# EAGLE library part IC-MIDI-YMZ294 (library mylib)
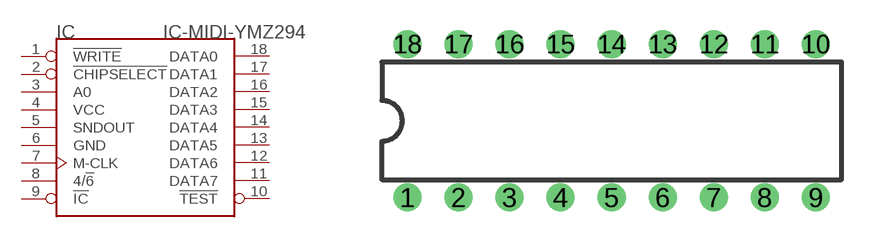
[diagram p0: symbol with the pads of IC-SOCKET-DIL-18; footprint IC-SOCKET-DIL-18]

Designator prefix IC

## IC-MIDI-YMZ294  [IC-SOCKET-DIL-18]
1  !WRITE  in
2  !CHIPSELECT  in
3  A0
4  VCC  pwr
5  SNDOUT
6  GND  pwr
7  M-CLK  in
8  4/!6
9  !IC
10  !TEST
11  DATA7
12  DATA6
13  DATA5
14  DATA4
15  DATA3
16  DATA2
17  DATA1
18  DATA0

## Footprint IC-SOCKET-DIL-18 (pad centres in mm)
Dual In Line Package
drill 0.889: 1 -10.16,-3.81; 2 -7.62,-3.81; 3 -5.08,-3.81; 4 -2.54,-3.81; 5 0,-3.81; 6 2.54,-3.81; 7 5.08,-3.81; 8 7.62,-3.81; 9 10.16,-3.81; 10 10.16,3.81; 11 7.62,3.81; 12 5.08,3.81; 13 2.54,3.81; 14 0,3.81; 15 -2.54,3.81; 16 -5.08,3.81; 17 -7.62,3.81; 18 -10.16,3.81